# Altium footprint library rpi.PcbLib: 2 footprints
Each footprint in its own frame and in the unit in brackets; x right, y up, seen from the top. Pads: shape width x height; smd on the part's side, far side on the other; paste and mask are expansions set on the pad; w line width, h text height; cw(c..) or ccw(c..) is an arc to the next point about the centre after c.
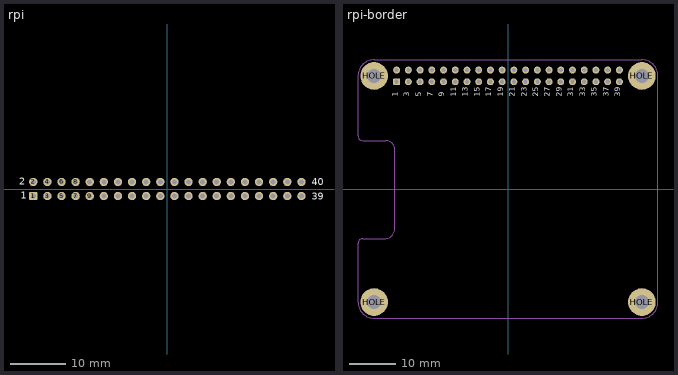
[diagram p0: the footprints below, top view; thin cyan lines are the x and y axes]

## rpi [mm]
pads (40):
  rrect25% 1.5x1.5 hole 0.9: 1(-24.13,-1.27)
  round 1.5 hole 0.9: 2(-24.13,1.27) 3(-21.59,-1.27) 4(-21.59,1.27) 5(-19.05,-1.27) 6(-19.05,1.27) 7(-16.51,-1.27) 8(-16.51,1.27) 9(-13.97,-1.27) 10(-13.97,1.27) 11(-11.43,-1.27) 12(-11.43,1.27) 13(-8.89,-1.27) 14(-8.89,1.27) 15(-6.35,-1.27) 16(-6.35,1.27) 17(-3.81,-1.27) 18(-3.81,1.27) 19(-1.27,-1.27) 20(-1.27,1.27) 21(1.27,-1.27) 22(1.27,1.27) 23(3.81,-1.27) 24(3.81,1.27) 25(6.35,-1.27) 26(6.35,1.27) 27(8.89,-1.27) 28(8.89,1.27) 29(11.43,-1.27) 30(11.43,1.27) 31(13.97,-1.27) 32(13.97,1.27) 33(16.51,-1.27) 34(16.51,1.27) 35(19.05,-1.27) 36(19.05,1.27) 37(21.59,-1.27) 38(21.59,1.27) 39(24.13,-1.27) 40(24.13,1.27)
Top Overlay:
  text "2" at -26.7,0.775 h1.27
  text "1" at -26.4,-1.775 h1.27
  text "39" at 26.025,-1.9 h1.27
  text "40" at 25.95,0.65 h1.27
Bottom Overlay:
  lines w0.2: -25.4,-2.54 25.527,-2.54 25.527,2.54 -25.4,2.54 -25.4,-2.54
3D body "female_header_a-bl254-dg-z32d.stp": height 8.5, standoff -3.2, extent -15.365,-2.375 25.525,2.625
3D body "female_header_a-bl254-dg-z32d.stp": height 8.5, standoff -3.2, extent -25.525,-2.373 15.365,2.627

## rpi-border [mm]
pads (44):
  rrect25% 1.5x1.5 hole 0.9: 1(-24.13,23.23)
  round 1.5 hole 0.9: 2(-24.13,25.77) 3(-21.59,23.23) 4(-21.59,25.77) 5(-19.05,23.23) 6(-19.05,25.77) 7(-16.51,23.23) 8(-16.51,25.77) 9(-13.97,23.23) 10(-13.97,25.77) 11(-11.43,23.23) 12(-11.43,25.77) 13(-8.89,23.23) 14(-8.89,25.77) 15(-6.35,23.23) 16(-6.35,25.77) 17(-3.81,23.23) 18(-3.81,25.77) 19(-1.27,23.23) 20(-1.27,25.77) 21(1.27,23.23) 22(1.27,25.77) 23(3.81,23.23) 24(3.81,25.77) 25(6.35,23.23) 26(6.35,25.77) 27(8.89,23.23) 28(8.89,25.77) 29(11.43,23.23) 30(11.43,25.77) 31(13.97,23.23) 32(13.97,25.77) 33(16.51,23.23) 34(16.51,25.77) 35(19.05,23.23) 36(19.05,25.77) 37(21.59,23.23) 38(21.59,25.77) 39(24.13,23.23) 40(24.13,25.77)
  round 6 hole 3: HOLE(-29,-24.5) HOLE(-29,24.5) HOLE(29,-24.5) HOLE(29,24.5)
Top Overlay:
  text "39" at 24.765,20 h2
  text "37" at 22.225,20 h2
  text "35" at 19.685,20 h2
  text "33" at 17.145,20 h2
  text "31" at 14.605,20 h2
  text "29" at 12.065,20 h2
  text "27" at 9.525,20 h2
  text "25" at 6.985,20 h2
  text "23" at 4.445,20 h2
  text "21" at 1.905,20 h2
  text "19" at -0.635,20 h2
  text "17" at -3.175,20 h2
  text "15" at -5.715,20 h2
  text "13" at -8.255,20 h2
  text "11" at -10.795,20 h2
  text "9" at -13.335,20 h2
  text "7" at -15.875,20 h2
  text "5" at -18.415,20 h2
  text "3" at -20.955,20 h2
  text "1" at -23.495,20 h2
Bottom Overlay:
  circle w0.5: c-24.75,21.25 r0.25
  lines w0.2: -25.4,21.96 -25.4,27.04 25.527,27.04 25.527,21.96 -25.4,21.96
Mechanical 1:
  lines w0.254: -32.5,-24.5 ccw(c-29,-24.5) -29,-28 29,-28 ccw(c28.996,-24.504) 32.492,-24.5 32.492,24.5 ccw(c28.996,24.504) 29,28 -29,28 ccw(c-29,24.5) -32.5,24.5 -32.5,11.5 ccw(c-31.5,11.5) -31.5,10.5 -26.5,10.5 cw(c-26.5,8.5) -24.5,8.5 -24.5,-8.5 cw(c-26.75,-8.5) -26.75,-10.75 -31.5,-10.75 ccw(c-31.5,-11.75) -32.5,-11.75 -32.5,-24.5
3D body "female_header_a-bl254-dg-z32d.stp": height 8.5, standoff -3.2, extent -25.525,22.127 15.365,27.127
3D body "female_header_a-bl254-dg-z32d.stp": height 8.5, standoff -3.2, extent -15.365,22.125 25.525,27.125